# Altium footprint library MYLIB.PcbLib: 19 footprints (part 2 of 2)
Each footprint in its own frame and in the unit in brackets; x right, y up, seen from the top. Pads: shape width x height; smd on the part's side, far side on the other; paste and mask are expansions set on the pad; w line width, h text height; cw(c..) or ccw(c..) is an arc to the next point about the centre after c.
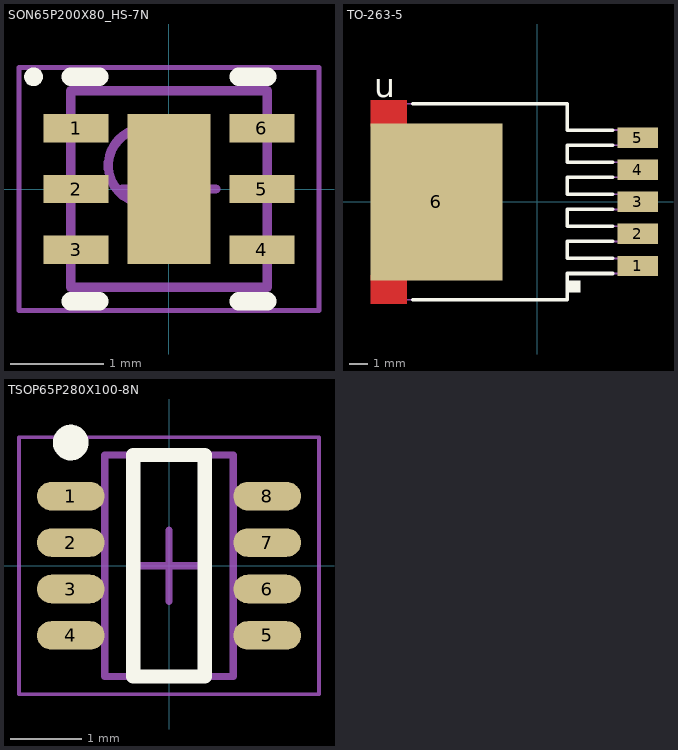
[diagram p1: the footprints below, top view; thin cyan lines are the x and y axes]

## SON65P200X80_HS-7N [mm] "SON, 6-Leads, Body 2.00x2.00mm, Pitch 0.65mm, Thermal Pad 1.60x0.89mm, IPC Medium Density"
height 0.8
pads (7):
  rect 0.7x0.3 smd: 1(-0.995,0.65) 2(-0.995,0) 3(-0.995,-0.65) 4(0.995,-0.65) 5(0.995,0) 6(0.995,0.65)
  rect 0.89x1.6 smd: ""(0,0)
Top Overlay:
  circle w0.1: c-1.45,1.2 r0.05
  lines w0.2: -1.05,-1.2 -0.745,-1.2 ; -1.05,1.2 -0.745,1.2 ; 0.745,-1.2 1.05,-1.2 ; 0.745,1.2 1.05,1.2
Mechanical 13:
  circle w0.1: c-0.25,0.25 r0.4
  lines w0.1: -1.05,-1.05 -1.05,1.05 1.05,1.05 1.05,-1.05 -1.05,-1.05
Mechanical 15:
  lines w0.05: -1.605,-1.3 -1.605,1.3 1.605,1.3 1.605,-1.3 -1.605,-1.3
  lines w0.1: -0.5,0 0.5,0 ; 0,-0.5 0,0.5
3D body: height 0.8, standoff 0.08, extent -1.05,-1.05 1.05,1.05

## TO-263-5 [mm]
pads (6):
  rect 2.16x1.07 smd paste-0.102 mask+0.051: 1(5.338,-3.4) 2(5.338,-1.7) 3(5.338,0.005) 4(5.338,1.7) 5(5.338,3.4)
  rect 6.99x8.33 smd paste-0.102 mask+0.051: 6(-5.338,0)
Top Layer:
  region: -8.832,-3.9 -8.832,-5.4 -6.923,-5.4 -6.923,-3.9
  region: -8.832,5.4 -8.832,4 -6.923,4 -6.923,5.4
Top Overlay:
  region: 1.6,-4.2 1.6,-4.8 2.3,-4.8 2.3,-4.2
  lines w0.2: -6.6,-5.2 1.6,-5.2 1.6,-3.8 4,-3.8 ; -6.6,5.2 1.6,5.2 1.6,3.8 4,3.8 ; 4,-3 1.6,-3 1.6,-2.1 4,-2.1 ; 4,-1.3 1.6,-1.3 1.6,-0.4 4,-0.4 ; 4,0.4 1.6,0.4 1.6,1.3 4,1.3 ; 4,2.1 1.6,2.1 1.6,3 4,3
  text "u" at -8.636,5.537 h1.27
Top Paste:
  region: -8.731,-4.002 -8.731,-5.298 -7.024,-5.298 -7.024,-4.002
  region: -8.731,5.298 -8.731,4.102 -7.024,4.102 -7.024,5.298
Top Solder:
  region: -8.883,-3.849 -8.883,-5.451 -6.872,-5.451 -6.872,-3.849
  region: -8.883,5.451 -8.883,3.949 -6.872,3.949 -6.872,5.451
Mechanical 13:
  lines w0.1: -8.3,-3.3 -7.9,-5.2 1.6,-5.2 1.6,-3.8 6,-3.8 6,-3 1.6,-3 1.6,-2.1 6,-2.1 6,-1.3 1.6,-1.3 1.6,-0.4 6,-0.4 6,0.4 1.6,0.4 1.6,1.3 6,1.3 6,2.1 1.6,2.1 1.6,3 6,3 6,3.8 1.6,3.8 1.6,5.2 -7.9,5.2 -8.3,3.6 -8.3,-3.3
3D body: height 0.25, standoff 0, extent 0,0 0.254,0.254
3D body "NOPB.STEP": height 4.78, standoff -0.03, extent -8.191,-5.08 6.159,5.08

## TSOP65P280X100-8N [mm] "TSOP, 8-Leads, Body 2.90x1.60mm, Pitch 0.65mm, IPC Medium Density"
height 1
pads (8):
  oval 0.95x0.4 smd: 1(-1.375,0.975) 2(-1.375,0.325) 3(-1.375,-0.325) 4(-1.375,-0.975) 5(1.375,-0.975) 6(1.375,-0.325) 7(1.375,0.325) 8(1.375,0.975)
Top Overlay:
  circle w0.25: c-1.375,1.725 r0.125
  lines w0.2: -0.5,-1.55 -0.5,1.55 0.5,1.55 0.5,-1.55 -0.5,-1.55
Mechanical 13:
  lines w0.1: -0.9,-1.55 -0.9,1.55 0.9,1.55 0.9,-1.55 -0.9,-1.55
Mechanical 15:
  lines w0.05: -2.1,-1.8 -2.1,1.8 2.1,1.8 2.1,-1.8 -2.1,-1.8
  lines w0.1: -0.5,0 0.5,0 ; 0,-0.5 0,0.5
3D body: height 1, standoff 0, extent -0.9,-1.55 0.9,1.55